# Altium footprint library SC70-SPE-SP3003.PcbLib: 1 footprints
Each footprint in its own frame and in the unit in brackets; x right, y up, seen from the top. Pads: shape width x height; smd on the part's side, far side on the other; paste and mask are expansions set on the pad; w line width, h text height; cw(c..) or ccw(c..) is an arc to the next point about the centre after c.
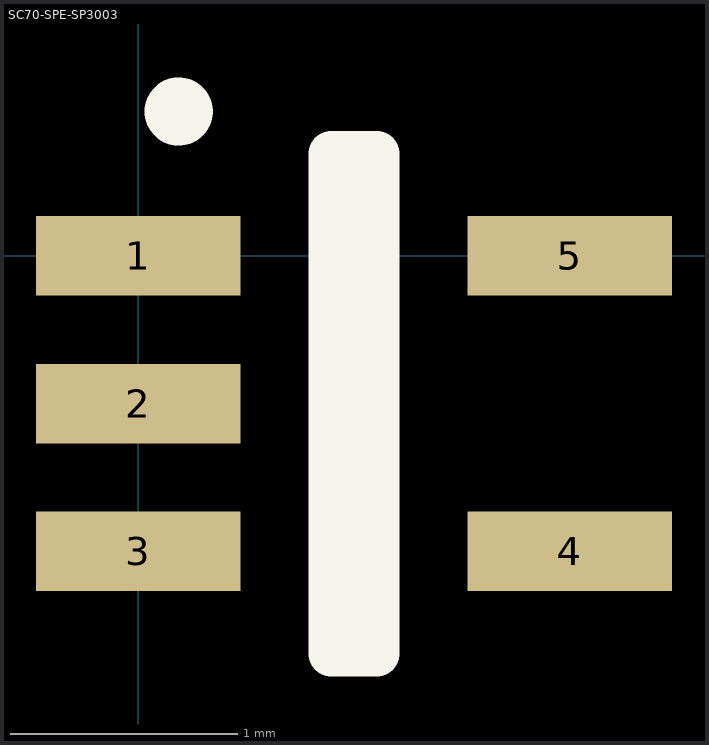
[diagram p0: the footprint, top view; thin cyan lines are the x and y axes]

## SC70-SPE-SP3003 [mm]
height 1
pads (5):
  rect 0.9x0.35 smd: 1(0,0) 2(0,-0.65) 3(0,-1.3) 4(1.9,-1.3) 5(1.9,0)
Top Overlay:
  circle w0.15: c0.179,0.635 r0.075
  lines w0.2: 0.85,-1.75 1.05,-1.75 1.05,0.45 0.85,0.45 0.85,-1.75
3D body: height 1, standoff 0.1, extent 0.275,-1.75 1.625,0.45